# Altium footprint library 12GA Power Input_footprint.PcbLib: 1 footprints
Each footprint in its own frame and in the unit in brackets; x right, y up, seen from the top. Pads: shape width x height; smd on the part's side, far side on the other; paste and mask are expansions set on the pad; w line width, h text height; cw(c..) or ccw(c..) is an arc to the next point about the centre after c.
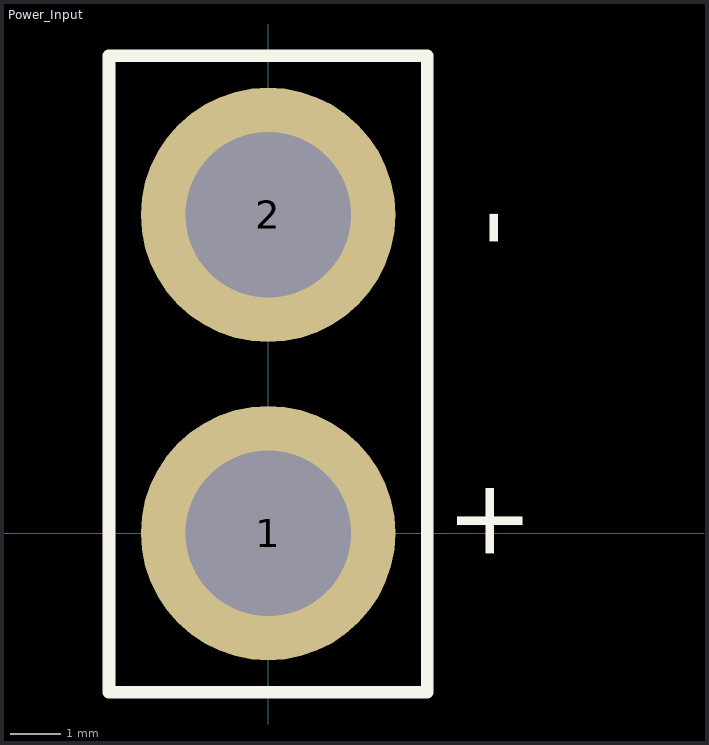
[diagram p0: the footprint, top view; thin cyan lines are the x and y axes]

## Power_Input [mil]
pads (2):
  round 200 hole 130: 1(0,0) 2(0,250)
Top Overlay:
  lines w10: -125,-125 -125,375 125,375 125,-125 -125,-125
  text "-" at 200,225 h60
  text "+" at 200,-25 h60